# Altium footprint library ardunio.PcbLib: 2 footprints
Each footprint in its own frame and in the unit in brackets; x right, y up, seen from the top. Pads: shape width x height; smd on the part's side, far side on the other; paste and mask are expansions set on the pad; w line width, h text height; cw(c..) or ccw(c..) is an arc to the next point about the centre after c.
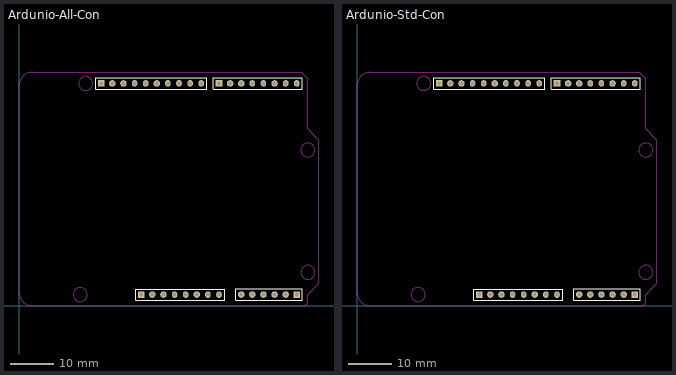
[diagram p0: the footprints below, top view; thin cyan lines are the x and y axes]

## Ardunio-All-Con [mm]
pads (32):
  rect 1.5x1.5 hole 0.9: 1(18.796,50.8) 1(27.94,2.54) 1(45.72,50.8) 1(63.5,2.54)
  round 1.5 hole 0.9: 2(21.336,50.8) 2(30.48,2.54) 2(48.26,50.8) 2(60.96,2.54) 3(23.876,50.8) 3(33.02,2.54) 3(50.8,50.8) 3(58.42,2.54) 4(55.88,2.54) 5(53.34,2.54) 6(31.496,50.8) 6(40.64,2.54) 6(50.8,2.54) 6(58.42,50.8)
  oval 1.27x1.5 hole 0.9: 4(26.416,50.8) 4(35.56,2.54) 4(53.34,50.8) 5(28.956,50.8) 5(38.1,2.54) 5(55.88,50.8) 7(34.036,50.8) 7(43.18,2.54) 7(60.96,50.8) 8(36.576,50.8) 8(45.72,2.54) 8(63.5,50.8) 9(39.116,50.8) 10(41.656,50.8)
Top Overlay:
  lines w0.2: 17.526,49.53 17.526,52.07 42.926,52.07 42.926,49.53 17.526,49.53 ; 26.67,1.27 26.67,3.81 46.99,3.81 46.99,1.27 26.67,1.27 ; 44.45,49.53 44.45,52.07 64.77,52.07 64.77,49.53 44.45,49.53 ; 49.53,1.27 49.53,3.81 64.77,3.81 64.77,1.27 49.53,1.27
Keep-Out Layer:
  circle w0.254: c66.04,35.56 r1.6
  circle w0.254: c13.97,2.54 r1.6
  circle w0.254: c15.24,50.8 r1.6
  circle w0.254: c66.04,7.62 r1.6
  lines w0.254: 0,2.286 0,50.673 ; 0,3.048 ccw(c3.048,3.048) 3.048,0 ; 0,50.292 cw(c3.048,50.292) 3.048,53.34 ; 2.54,0 65.04,0 ccw(c65.04,1) 66.04,1 66.04,2.54 68.58,5.08 68.58,37.846 66.04,40.386 66.04,51.816 64.516,53.34 2.54,53.34
3D body: height 8.65, standoff -2.9, extent 36.83,1.29 46.99,3.79
3D body: height 8.65, standoff -2.9, extent 26.67,1.29 36.83,3.79
3D body: height 8.65, standoff -2.9, extent 54.61,49.55 64.77,52.05
3D body: height 8.65, standoff -2.9, extent 44.45,49.55 54.61,52.05
3D body: height 8.65, standoff -2.9, extent 17.526,49.55 42.926,52.05
3D body: height 8.65, standoff -2.9, extent 57.15,1.29 64.77,3.79
3D body: height 8.65, standoff -2.9, extent 49.53,1.29 57.15,3.79

## Ardunio-Std-Con [mm]
pads (32):
  rect 1.5x1.5 hole 0.9: 1(18.796,50.8) 1(27.94,2.54) 1(45.72,50.8) 1(63.5,2.54)
  round 1.5 hole 0.9: 2(21.336,50.8) 2(30.48,2.54) 2(48.26,50.8) 2(60.96,2.54) 3(23.876,50.8) 3(33.02,2.54) 3(50.8,50.8) 3(58.42,2.54) 4(55.88,2.54) 5(53.34,2.54) 6(31.496,50.8) 6(40.64,2.54) 6(50.8,2.54) 6(58.42,50.8)
  oval 1.27x1.5 hole 0.9: 4(26.416,50.8) 4(35.56,2.54) 4(53.34,50.8) 5(28.956,50.8) 5(38.1,2.54) 5(55.88,50.8) 7(34.036,50.8) 7(43.18,2.54) 7(60.96,50.8) 8(36.576,50.8) 8(45.72,2.54) 8(63.5,50.8) 9(39.116,50.8) 10(41.656,50.8)
Top Overlay:
  lines w0.2: 17.526,49.53 17.526,52.07 42.926,52.07 42.926,49.53 17.526,49.53 ; 26.67,1.27 26.67,3.81 46.99,3.81 46.99,1.27 26.67,1.27 ; 44.45,49.53 44.45,52.07 64.77,52.07 64.77,49.53 44.45,49.53 ; 49.53,1.27 49.53,3.81 64.77,3.81 64.77,1.27 49.53,1.27
Keep-Out Layer:
  circle w0.254: c66.04,35.56 r1.6
  circle w0.254: c13.97,2.54 r1.6
  circle w0.254: c15.24,50.8 r1.6
  circle w0.254: c66.04,7.62 r1.6
  lines w0.254: 0,2.286 0,50.673 ; 0,3.048 ccw(c3.048,3.048) 3.048,0 ; 0,50.292 cw(c3.048,50.292) 3.048,53.34 ; 2.54,0 65.04,0 ccw(c65.04,1) 66.04,1 66.04,2.54 68.58,5.08 68.58,37.846 66.04,40.386 66.04,51.816 64.516,53.34 2.54,53.34
3D body: height 8.65, standoff -2.9, extent 36.83,1.29 46.99,3.79
3D body: height 8.65, standoff -2.9, extent 26.67,1.29 36.83,3.79
3D body: height 8.65, standoff -2.9, extent 54.61,49.55 64.77,52.05
3D body: height 8.65, standoff -2.9, extent 44.45,49.55 54.61,52.05
3D body: height 8.65, standoff -2.9, extent 17.526,49.55 42.926,52.05
3D body: height 8.65, standoff -2.9, extent 57.15,1.29 64.77,3.79
3D body: height 8.65, standoff -2.9, extent 49.53,1.29 57.15,3.79